# EAGLE library part 510E1A48F416P (library radu-collected)
Honeywell 510-series, 4-bit gray code decade switch, vertical mount
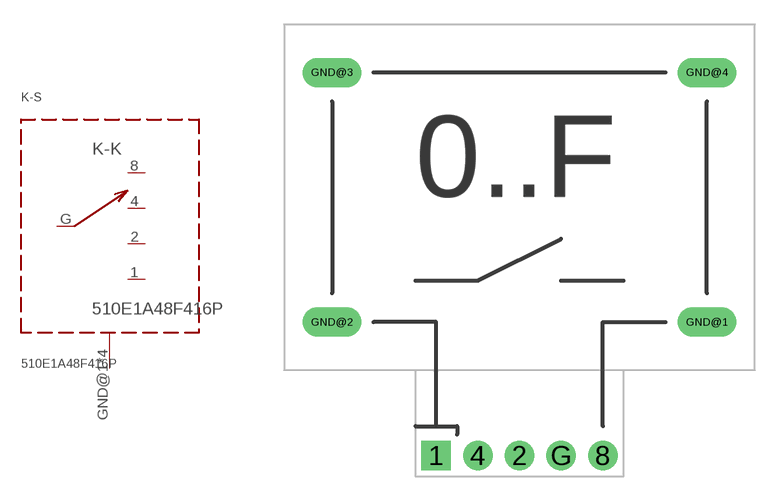
[diagram p3: symbol with the pads of 510E1A48F416PC; footprint 510E1A48F416PC]

Designator prefix K; gates -K=_GENERIC_DECADESWITCH_4BIT -S=_GENERIC_SHIELD

## 510E1A48F416PC  [510E1A48F416PC]
1  -K:1  pas
2  -K:2  pas
4  -K:4  pas
8  -K:8  pas
G  -K:COM  pas
GND@1  -S:GND  pwr
GND@2  -S:GND  pwr
GND@3  -S:GND  pwr
GND@4  -S:GND  pwr

## Footprint 510E1A48F416PC (pad centres in mm)
Honeywell 510E1A48F416PC 4-bit decade switch Vertical mount
drill 1.2 square: 1 -5.08,-15.748
drill 1.2: 2 0,-15.748; 4 -2.54,-15.748; 8 5.08,-15.748; G 2.54,-15.748
drill 1.2 long: GND@1 11.43,-7.62; GND@2 -11.43,-7.62; GND@3 -11.43,7.62; GND@4 11.43,7.62